# Altium schematic symbol library Student_Schlib_41070.SchLib: 11 symbols
Pins are listed as number, name and electrical type; pins without a type are passive.

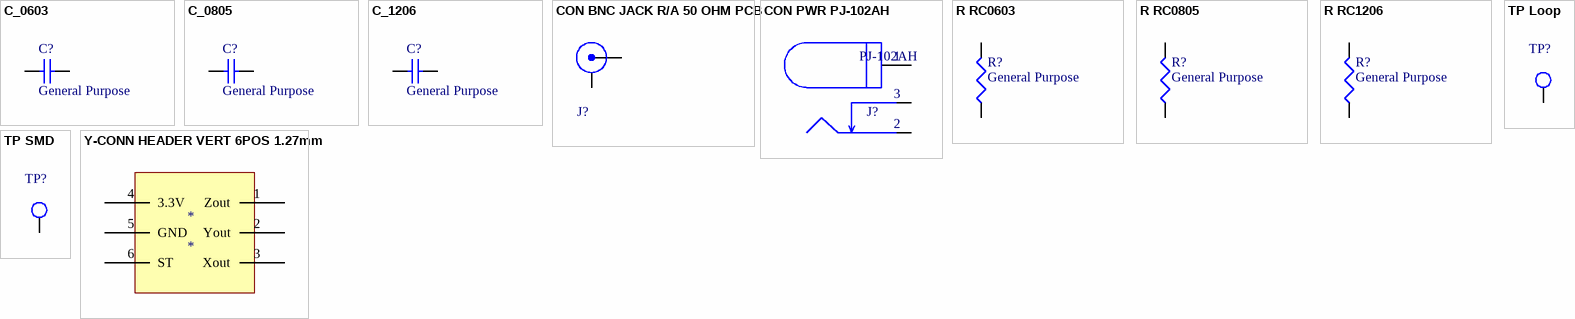
[diagram p0: symbols C_0603 to Y-CONN HEADER VERT 6POS 1.27mm]

## C_0603
designator C?, comment General Purpose
CC0603 Series; Symbol Name 1: C_0603
footprint CAPC1608X08N (Chip Capacitor, 2-Leads, Body 1.60x0.80mm, IPC Medium Density)
pins: 1, 2

## C_0805
designator C?, comment General Purpose
CC0805 Series
footprint CAPC2012X07N (Chip Capacitor, 2-Leads, Body 2.00x1.25mm, IPC Medium Density)
pins: 1, 2

## C_1206
designator C?, comment General Purpose
CC1206 Series
footprint CAPC3216X14N (Chip Capacitor, 2-Leads, Body 3.20x1.60mm, IPC Medium Density)
pins: 1, 2

## CON BNC JACK R/A 50 OHM PCB
designator J?  (value not drawn)
BNC Connector Jack, Female Socket 50Ohm Panel Mount, Through Hole, Right Angle Solder; Manufacturer Code: 1-1634613-0; Manufacturer: TE Connectivity AMP Connectors; Digikey Order: A97554-ND; Supplier 1: Rs; Supplier Part Number 1: 6807399
footprint CON BNC 90deg (BNC INSULATED 90 Degrees)
pins: 1 X, 2 Y

## CON PWR PJ-102AH
designator J?, comment PJ-102AH
Power Barrel Con, 2.0mm ID, 5.5mm OD, 5A; Manufacturer: CUI Devices; Manufacturer Code: PJ-102AH; Digikey Order: CP-102AH-ND; Supplier 1: Arrow Electronics; Supplier Part Number 1: PJ-102AH
footprint CON Barrel PJ-102AH (5.5mm Barrel Plug (2.1mm ID))
pins: 1, 2, 3

## R RC0603
designator R?, comment General Purpose
RC0603 Series 1% 1/10W; Manufacturer: Yageo
footprint RESC1608X06N (Chip Resistor 0603, 2-Leads, Body 1.60x0.80mm, IPC Medium Density)
pins: 1, 2

## R RC0805
designator R?, comment General Purpose
RC0805 Series 1% 1/8W; Manufacturer: Yageo
footprint RESC2012X06N (Chip Resistor, 2-Leads, Body 2.00x1.25mm, IPC Medium Density)
pins: 1, 2

## R RC1206
designator R?, comment General Purpose
RC1206 Series 1% 1/4W; Manufacturer Code: Yageo
footprint RESC3216X06N (Chip Resistor, 2-Leads, Body 3.20x1.60mm, IPC Medium Density)
pins: 1, 2

## TP Loop
designator TP?  (value not drawn)
Test point loop, 1mm, Keystone 5001; Manufacturer Code: 5001; Manufacturer: Keystone Electronics; Digikey Order: 36-5001-ND
footprint TP Loop Hole1.1mm (Keystone 5001)
pins: 1 TP

## TP SMD
designator TP?  (value not drawn)
Test point SMD; Manufacturer Code: S1751-46R; Manufacturer: Harwin Inc.; Digikey Order: 952-1478-1-ND
footprint TP SMD 3.4x1.8mm (Test Point SMD)
pins: 1 TP

## Y-CONN HEADER VERT 6POS 1.27mm
designator *
pins: 1 Zout, 2 Yout, 3 Xout, 4 3.3V, 5 GND, 6 ST